# EAGLE library part RT6150B-33GQW (library RT6150B-33GQW)
IC REG BCK BST 3.3V 800MA 10WDFN Source: Datasheet <https://datasheet.octopart.com/RT6150B-33GQW-Richtek-datasheet-82510503.pdf>
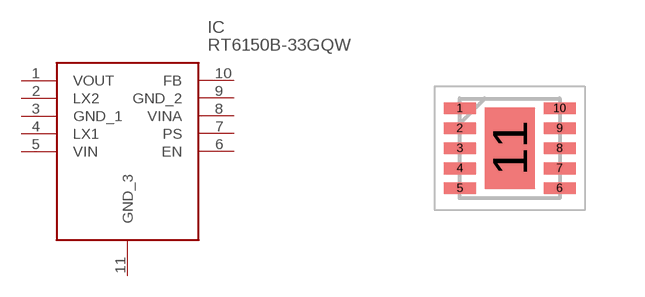
[diagram p0: symbol with the pads of SON50P250X250X80-11N; footprint SON50P250X250X80-11N]

Designator prefix IC

## RT6150B-33GQW (Description: IC REG BCK BST 3.3V 800MA 10WDFN; Height: 0.8mm; Manufacturer_Name: RICHTEK; Manufacturer_Part_Number: RT6150B-33GQW; Mouser_Part_Number: 835-RT6150B-33GQW; Mouser_Price-Stock: https://www.mouser.co.uk/ProductDetail/Richtek/RT6150B-33GQW?qs=amGC7iS6iy8r3kS79wnzgg%3D%3D)  [SON50P250X250X80-11N]
1  VOUT
2  LX2
3  GND_1
4  LX1
5  VIN
6  EN
7  PS
8  VINA
9  GND_2
10  FB
11  GND_3

## Footprint SON50P250X250X80-11N (pad centres in mm)
W-Type 10L DFN 2.5x2.5 Package
smd 0.8 x 0.3: 1 -1.25,1; 2 -1.25,0.5; 3 -1.25,0; 4 -1.25,-0.5; 5 -1.25,-1; 6 1.25,-1; 7 1.25,-0.5; 8 1.25,0; 9 1.25,0.5; 10 1.25,1
smd 1.25 x 2.05: 11 0,0